# EAGLE library part GPS (library john)
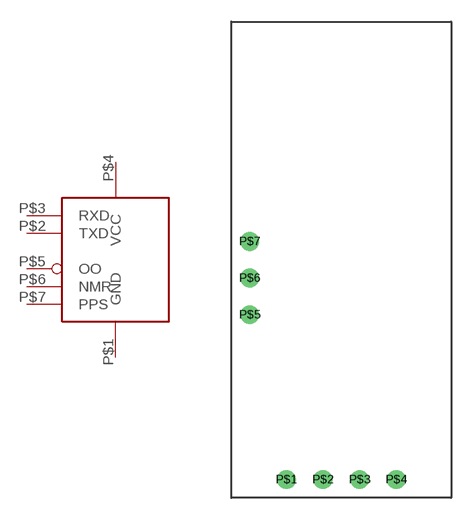
[diagram p2: symbol with the pads of GPS-MICRO-MINI; footprint GPS-MICRO-MINI]

Designator prefix -

## GPS  [GPS-MICRO-MINI]
P$1  GND  pwr
P$2  TXD
P$3  RXD  in
P$4  VCC  pwr
P$5  OO  in
P$6  NMR  out
P$7  PPS  out

## Footprint GPS-MICRO-MINI (pad centres in mm)
drill 0.8 round: P$1 3.81,-31.75; P$2 6.35,-31.75; P$3 8.89,-31.75; P$4 11.43,-31.75; P$5 1.27,-20.32; P$6 1.27,-17.78; P$7 1.27,-15.24